# Altium schematic symbol library SCH - POWER - MURATA - MGJ6T24150505MC-R7.SCHLIB: 1 symbol
Pins are listed as number, name and electrical type; pins without a type are passive.

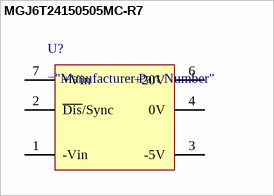
[diagram p0: symbol MGJ6T24150505MC-R7]

## MGJ6T24150505MC-R7
designator U?
Converter, DC-DC, isolated 5.2kV, 6W, 24 Vin, +20/-5 Vout
pins: 1 -Vin (power) "negative Input Voltage", 2 ~{Dis}/Sync (power) "negative Input Voltage", 3 -5V, 4 0V (power) "negative Output Voltage", 6 +20V (power) "positive Output Voltage", 7 +Vin (power) "positive Input Voltage"